# Altium schematic symbol library 662104231722.SchLib: 1 symbol
Pins are listed as number, name and electrical type; pins without a type are passive.

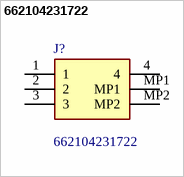
[diagram p0: symbol 662104231722]

## 662104231722
designator J?
WR-MPC3 Micro Power Connectors 3.00 mm SMT Dual Row Male Header Right Angled with SMT Solder Tabs - Tin Plating - Glow-Wire, 04 Pins; Manufacturer_Name: Wurth Elektronik; Geometry.Height: 8.91mm; Newark Part Number: *; Newark Price/Stock: *; Manufacturer_Part_Number: 662104231722; Datasheet Link: https://www.we-online.com/components/products/download/3D_662104231722+%28rev1%29.pdf
footprint 662104231722
pins: 1, 2, 3, 4, MP1, MP2